# Altium footprint library Phoenix_1757242.PcbLib: 1 footprints
Each footprint in its own frame and in the unit in brackets; x right, y up, seen from the top. Pads: shape width x height; smd on the part's side, far side on the other; paste and mask are expansions set on the pad; w line width, h text height; cw(c..) or ccw(c..) is an arc to the next point about the centre after c.
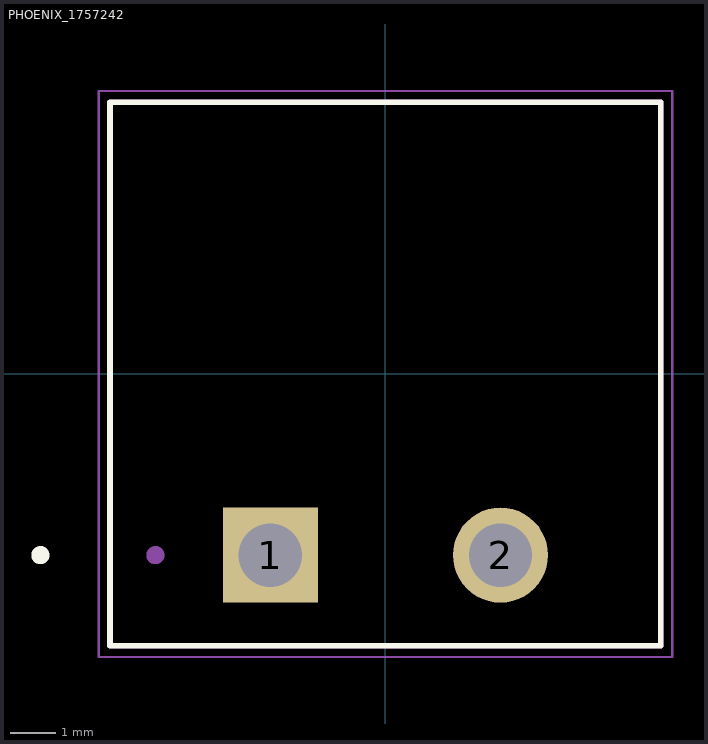
[diagram p0: the footprint, top view; thin cyan lines are the x and y axes]

## PHOENIX_1757242 [mm]
pads (2):
  rect 2.1x2.1 hole 1.4: 1(-2.54,-4)
  round 2.1 hole 1.4: 2(2.54,-4)
Top Overlay:
  circle w0.2: c-7.62,-4 r0.1
  lines w0.127: -6.08,-6 -6.08,6 6.08,6 6.08,-6 -6.08,-6
Mechanical 13:
  circle w0.2: c-5.08,-4 r0.1
  lines w0.127: -6.08,-6 -6.08,6 6.08,6 6.08,-6 -6.08,-6
Mechanical 15:
  lines w0.05: -6.33,-6.25 -6.33,6.25 6.33,6.25 6.33,-6.25 -6.33,-6.25
3D body "1757242--3DModel-STEP-1.STEP": height 8.6, standoff -3.5, extent -6,-6.04 6,6.04